# Altium schematic symbol library 691 216 810 0xx.SchLib: 2 symbols
Pins are listed as number, name and electrical type; pins without a type are passive.

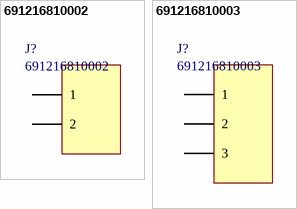
[diagram p0: symbols 691216810002 to 691216810003]

## 691216810002
designator J?
Horizontal Cable Entry with Rising Cage Clamp, Serie 2168 - 10.00 mm; Manufacturer: Wurth Elektronik; ComponentLink1 Description: Manufacturer; ComponentLink2 Description: Datasheet; NoPins: 2; ComponentLink1 URL: http://www.we-online.com; ComponentLink2 URL: http://katalog.we-online.de/em/datasheet/6912168100xx.pdf; Created By: Baojun Chen; Created Date: 6-Aug-15; PartNo: 691216810002
footprint 691216810002 (Serie 2168 - 10.00 mm _ 2 pins)
pins: 1, 2

## 691216810003
designator J?
Horizontal Cable Entry with Rising Cage Clamp, Serie 2168 - 10.00 mm; Manufacturer: Wurth Elektronik; ComponentLink1 Description: Manufacturer; ComponentLink2 Description: Datasheet; NoPins: 3; ComponentLink1 URL: http://www.we-online.com; ComponentLink2 URL: http://katalog.we-online.de/em/datasheet/6912168100xx.pdf; Created By: Baojun Chen; Created Date: 6-Aug-15; PartNo: 691216810003
footprint 691216810003 (Serie 2168 - 10.00 mm _ 3 pins)
pins: 1, 2, 3